# Altium schematic symbol library DG332K-5.0.SchLib: 1 symbol
Pins are listed as number, name and electrical type; pins without a type are passive.

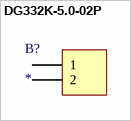
[diagram p0: symbol DG332K-5.0-02P]

## DG332K-5.0-02P
designator B?
link: https://www.degson.com/content/details_552_879265.html?lang=en
footprint DG332K-5.0-02P
pins: 1, 2